# Altium footprint library PcbLib1.PcbLib: 9 footprints
Each footprint in its own frame and in the unit in brackets; x right, y up, seen from the top. Pads: shape width x height; smd on the part's side, far side on the other; paste and mask are expansions set on the pad; w line width, h text height; cw(c..) or ccw(c..) is an arc to the next point about the centre after c.
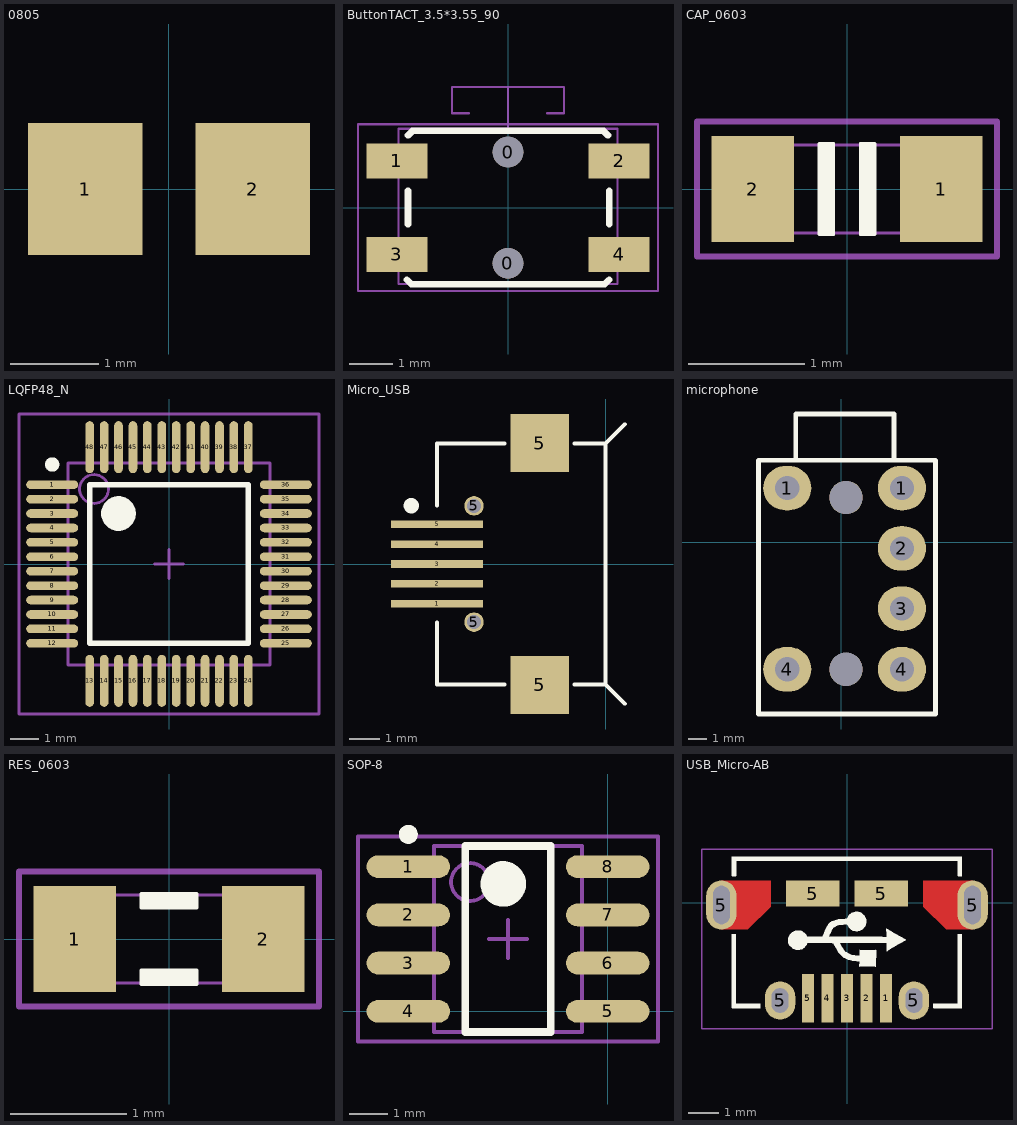
[diagram p0: the footprints below, top view; thin cyan lines are the x and y axes]

## 0805 [mm] "Chip Resistor; Body 2.0 x 1.3 mm (LxW typ)"
height 2.54
pads (2):
  rect 1.3x1.5 smd: 1(-0.95,0) 2(0.95,0)

## ButtonTACT_3.5*3.55_90 [mm]
height 4.3
pads (6):
  round 0.7 hole 0.7 mask+0: 0(0,-1.27) 0(0,1.27)
  rect 1.4x0.8 smd: 1(-2.54,1.069) 2(2.54,1.069) 3(-2.54,-1.069) 4(2.54,-1.069)
Top Overlay:
  lines w0.152: -2.311,-1.651 -2.21,-1.753 2.21,-1.753 2.311,-1.651 ; -2.286,-0.381 -2.286,0.381 ; -2.286,1.651 -2.184,1.753 2.184,1.753 2.286,1.651 ; 2.311,-0.381 2.311,0.381
Mechanical 13:
  lines w0.051: -0.899,2.153 -1.28,2.153 -1.28,2.753 1.28,2.753 1.28,2.153 0.899,2.153 ; 0,1.803 0,2.753 ; -2.5,-1.75 2.5,-1.75 2.5,1.803 -2.5,1.803 -2.5,-1.75
Mechanical 14:
  lines w0.051: -3.429,-1.905 3.429,-1.905 3.429,1.905 -3.429,1.905 -3.429,-1.905
3D body: height 1.42, standoff -0.02, extent -2.289,-1.391 2.311,2.159

## CAP_0603 [mil]
height 31.5
pads (2):
  rect 28x36 smd: 1(32,0) 2(-32,0)
Top Overlay:
  region: -4.5,15.5 -9.5,15.5 -9.5,-15.5 -4.5,-15.5
  region: 4.5,-15.5 9.5,-15.5 9.5,15.5 4.5,15.5
  lines w1: -9.5,-15.5 -9.5,15.5 -4.5,15.5 -4.5,-15.5 -9.5,-15.5 ; 4.5,-15.5 4.5,15.5 9.5,15.5 9.5,-15.5 4.5,-15.5
Mechanical 13:
  lines w1: -19.01,-15 18.99,-15 ; -19,15 19,15 ; -33.01,-17 -33.01,17 -19.01,17 -19.01,-17 -33.01,-17 ; 19,-17 33,-17 33,17 19,17 19,-17
Mechanical 14:
  lines w2: -51,-23 -51,23 51,23 51,-23 -51,-23
3D body: height 36.22, standoff 0, extent -31.5,-15.75 31.49,15.74

## LQFP48_N [mm]
height 12
pads (48):
  oval 1.8x0.3 smd: 1(-4.05,2.75) 2(-4.05,2.25) 3(-4.05,1.75) 4(-4.05,1.25) 5(-4.05,0.75) 6(-4.05,0.25) 7(-4.05,-0.25) 8(-4.05,-0.75) 9(-4.05,-1.25) 10(-4.05,-1.75) 11(-4.05,-2.25) 12(-4.05,-2.75) 25(4.05,-2.75) 26(4.05,-2.25) 27(4.05,-1.75) 28(4.05,-1.25) 29(4.05,-0.75) 30(4.05,-0.25) 31(4.05,0.25) 32(4.05,0.75) 33(4.05,1.25) 34(4.05,1.75) 35(4.05,2.25) 36(4.05,2.75)
  oval 0.3x1.8 smd: 13(-2.75,-4.05) 14(-2.25,-4.05) 15(-1.75,-4.05) 16(-1.25,-4.05) 17(-0.75,-4.05) 18(-0.25,-4.05) 19(0.25,-4.05) 20(0.75,-4.05) 21(1.25,-4.05) 22(1.75,-4.05) 23(2.25,-4.05) 24(2.75,-4.05) 37(2.75,4.05) 38(2.25,4.05) 39(1.75,4.05) 40(1.25,4.05) 41(0.75,4.05) 42(0.25,4.05) 43(-0.25,4.05) 44(-0.75,4.05) 45(-1.25,4.05) 46(-1.75,4.05) 47(-2.25,4.05) 48(-2.75,4.05)
Top Overlay:
  circle w0.6: c-1.75,1.75 r0.3
  circle w0.25: c-4.05,3.45 r0.125
  lines w0.2: -2.75,-2.75 2.75,-2.75 2.75,2.75 -2.75,2.75 -2.75,-2.75
Mechanical 13:
  circle w0.1: c-2.6,2.6 r0.5
  lines w0.1: -3.5,-3.5 3.5,-3.5 3.5,3.5 -3.5,3.5 -3.5,-3.5
Mechanical 15:
  lines w0.1: -0.5,0 0.5,0 ; 0,-0.5 0,0.5 ; -5.2,-5.2 5.2,-5.2 5.2,5.2 -5.2,5.2 -5.2,-5.2

## Micro_USB [mm]
height 12
pads (9):
  rect 3x0.25 smd: 1(-5.508,-1.3) 2(-5.508,-0.65) 3(-5.508,0) 4(-5.508,0.65) 5(-5.508,1.3)
  round 0.635 hole 0.457: 5(-4.3,-1.9) 5(-4.3,1.9)
  rect 1.9x1.9 smd: 5(-2.15,-3.95) 5(-2.15,3.95)
Top Overlay:
  circle w0.25: c-6.348,1.905 r0.125
  lines w0.127: -5.508,-3.937 -3.302,-3.937 ; -5.508,-3.9 -5.508,-1.905 ; -5.508,1.905 -5.508,3.9 ; -5.508,3.937 -3.302,3.937 ; -1.016,-3.937 0,-3.937 0.63,-4.567 ; -1.016,3.937 0,3.937 0.63,4.567 ; 0,-3.9 0,3.9

## microphone [mm]
pads (8):
  oval 2.6x2.4 hole 1.3: 1(-2.921,2.921) 1(3.268,2.921) 2(3.268,-0.329) 3(3.268,-3.579) 4(-2.921,-6.858) 4(3.268,-6.858)
  round 1.8 hole 1.8: ""(0.254,-6.858) ""(0.254,2.413)
Top Overlay:
  lines w0.254: -2.463,4.421 -2.463,6.921 2.837,6.921 2.837,4.521 ; -4.471,-9.271 -4.471,4.421 5.08,4.421 5.08,-9.271 -4.471,-9.271

## RES_0603 [mil]
height 31.5
pads (2):
  rect 28x36 smd: 1(-32,0) 2(32,0)
Top Overlay:
  region: 9.5,-15.5 -9.5,-15.5 -9.5,-10.5 9.5,-10.5
  region: -9.5,15.5 9.5,15.5 9.5,10.5 -9.5,10.5
  lines w1: -9.5,-15.5 -9.5,-10.5 9.5,-10.5 9.5,-15.5 -9.5,-15.5 ; -9.5,10.5 9.5,10.5 9.5,15.5 -9.5,15.5 -9.5,10.5
Mechanical 13:
  lines w1: -19,-15 19,-15 ; -18.99,15 19.01,15 ; -33,-17 -33,17 -19,17 -19,-17 -33,-17 ; 19.01,-17 33.01,-17 33.01,17 19.01,17 19.01,-17
Mechanical 14:
  lines w2: -51,-23 51,-23 51,23 -51,23 -51,-23
3D body: height 19.68, standoff 0, extent -31.49,-15.74 31.51,15.75

## SOP-8 [mm] "SOP, 8-Leads, Body 4.9x3.9mm (max), Pitch 1.27mm, IPC Medium Density"
height 1.75
pads (8):
  oval 2.2x0.6 smd: 1(-5.25,3.81) 2(-5.25,2.54) 3(-5.25,1.27) 4(-5.25,0) 5(0,0) 6(0,1.27) 7(0,2.54) 8(0,3.81)
Top Overlay:
  circle w0.25: c-5.25,4.66 r0.125
  circle w0.6: c-2.75,3.355 r0.3
  lines w0.2: -3.75,-0.545 -3.75,4.355 -1.5,4.355 -1.5,-0.545 -3.75,-0.545
Mechanical 13:
  circle w0.1: c-3.625,3.405 r0.5
  lines w0.1: -4.575,-0.545 -4.575,4.355 -0.675,4.355 -0.675,-0.545 -4.575,-0.545
Mechanical 15:
  lines w0.1: -3.125,1.905 -2.125,1.905 ; -2.625,1.405 -2.625,2.405 ; -6.575,-0.795 -6.575,4.605 1.325,4.605 1.325,-0.795 -6.575,-0.795
3D body: height 1.75, standoff 0.1, extent -4.575,-0.545 -0.675,4.355

## USB_Micro-AB [mil]
height 153.54
pads (11):
  rect 15.75x64 smd: 1(51.18,-125) 2(25.59,-125) 3(0,-125) 4(-25.59,-125) 5(-51.18,-125)
  oval 40x64 hole 22 slot 50 at 90 deg mask+0: 5(-164.37,-3) 5(164.37,-3)
  oval 40x50 hole 22 slot 32 at 90 deg mask+0: 5(-87.6,-128) 5(87.6,-128)
  rect 70x34 smd mask+0: 5(-45,12) 5(45,12)
Top Layer:
  region: 100,29 164.37,29 164.37,-35 130,-35 100,-5
  region: -164.37,29 -100,29 -100,-5 -130,-35 -164.37,-35
Top Overlay:
  drawing of 24 lines, arcs and shapes, not listed
Top Solder:
  region: 100,29 164.37,29 164.37,-35 130,-35 100,-5
  region: -164.37,29 -100,29 -100,-5 -130,-35 -164.37,-35
Mechanical 14:
  lines w2: -190,-165 190,-165 190,70 -190,70 -190,-165
3D body: height 106.7, standoff -9.04, extent -157.09,-141.34 157.08,72.44